# Altium footprint library Inductors.PcbLib: 25 footprints (part 2 of 2)
Each footprint in its own frame and in the unit in brackets; x right, y up, seen from the top. Pads: shape width x height; smd on the part's side, far side on the other; paste and mask are expansions set on the pad; w line width, h text height; cw(c..) or ccw(c..) is an arc to the next point about the centre after c.
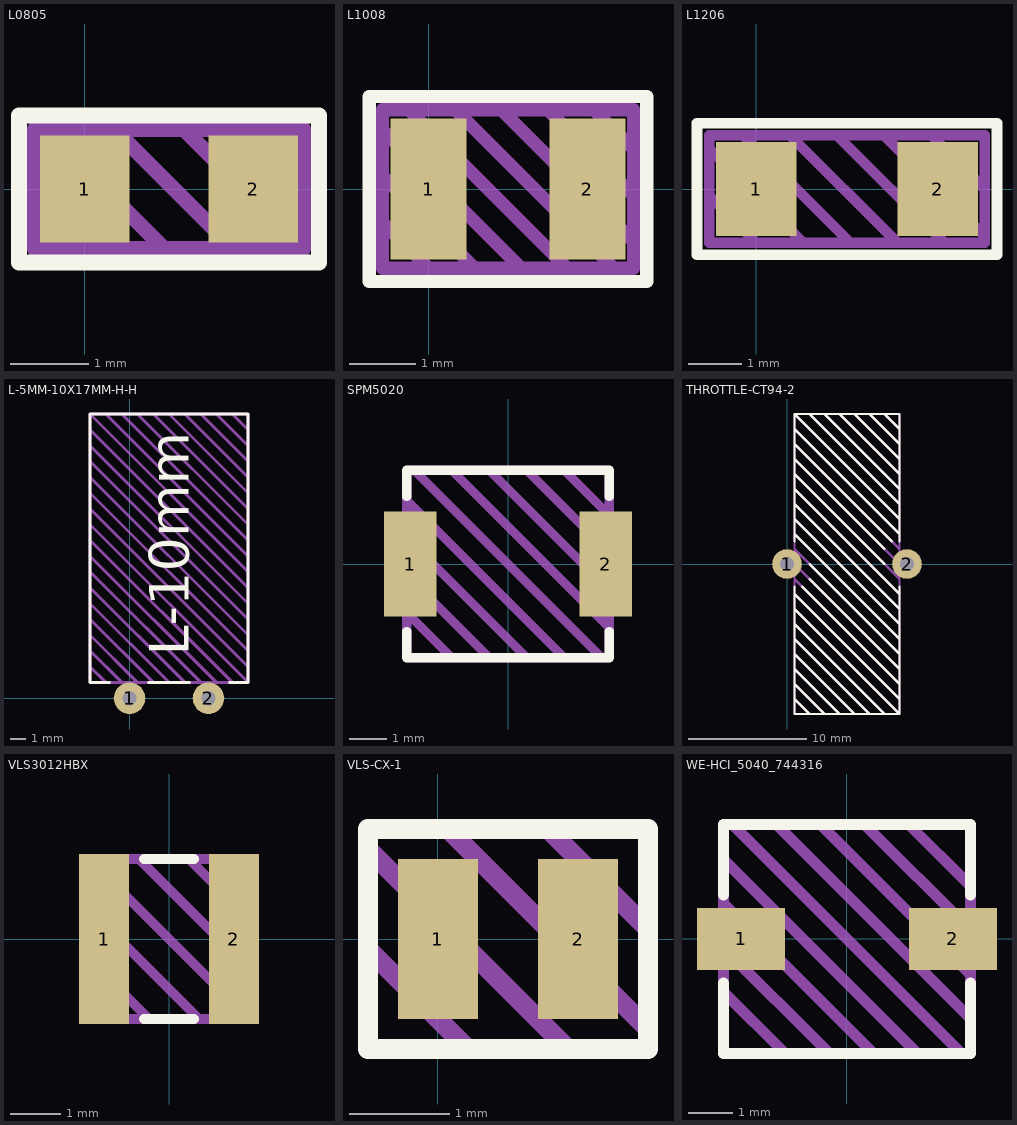
[diagram p1: the footprints below, top view; thin cyan lines are the x and y axes]

## L0805 [mil]
pads (2):
  rect 45x54 smd: 1(0,0) 2(85,0)
Top Overlay:
  lines w7.87: -33,-37 -33,37 118,37 118,-37 -33,-37
Top Draw:
  lines w7.87: -25,0 5,-30 ; -20,30 40,-30 ; 15,30 75,-30 ; 35,-30 42.5,-30 ; 50,30 110,-30 ; 85,30 110,5 ; 110,-30 110,30 -25,30 -25,-30 110,-30
Top Info:
  text "'.Comment'" at -82.14,-84.15 h29.53
3D body "Chip2PinSM127P600-8N.step": height 23.62, standoff 0, extent 3.63,-23.62 82.37,23.62

## L1008 [mm]
pads (2):
  rect 1.15x2.14 smd: 1(0,0) 2(2.4,0)
Top Overlay:
  lines w0.2: -0.9,-1.4 -0.9,1.4 3.3,1.4 3.3,-1.4 -0.9,-1.4
Top Draw:
  lines w0.2: -0.7,-0.5 0,-1.2 ; -0.7,0.2 0.7,-1.2 ; -0.7,0.9 1.4,-1.2 ; -0.3,1.2 2.1,-1.2 ; 0.4,1.2 2.8,-1.2 ; 1.1,1.2 3.1,-0.8 ; 1.8,1.2 3.1,-0.1 ; 2.5,1.2 3.1,0.6 ; -0.7,-1.2 -0.7,1.2 3.1,1.2 3.1,-1.2 -0.7,-1.2
Top Info:
  text "'.Comment'" at -1.986,-2.537 h0.75
3D body "INDC2520X09N.step": height 0.9, standoff 0, extent -0.05,-1 2.45,1

## L1206 [mil]
pads (2):
  rect 60x70 smd: 1(0,0) 2(135,0)
Top Overlay:
  lines w7.87: -44,-49 179,-49 179,49 -44,49 -44,-49
Top Draw:
  lines w7.87: -35,-5 0,-40 ; -35,30 35,-40 ; -10,40 70,-40 ; 25,40 105,-40 ; 60,40 140,-40 ; 95,40 170,-35 ; 130,40 170,0 ; -35,-40 170,-40 170,40 -35,40 -35,-40
Top Info:
  text "'.Comment'" at -58.52,-95.96 h29.53
3D body "Chip2PinSM127P600-8N.step": height 23.62, standoff 0, extent 5.01,-31.49 131,31.5

## L-5MM-10X17MM-H-H [mm]
pads (2):
  round 2 hole 0.9: 1(0,0) 2(5,0)
Top Overlay:
  lines w0.2: -1.27,1 -2.5,1 -2.5,18 7.5,18 7.5,1 6.35,1 ; 1.2,1 3.8,1
  text "L-10mm" at 3.75,2.7 h2.5
Top Draw:
  lines w0.2: -2.5,2 -1.5,1 ; -2.5,3 -0.5,1 ; -2.5,4 0.5,1 ; -2.5,5 1.5,1 ; -2.5,6 2.5,1 ; -2.5,7 3.5,1 ; -2.5,8 4.5,1 ; -2.5,9 5.5,1 ; -2.5,10 6.5,1 ; -2.5,11 7.5,1 ; -2.5,12 7.5,2 ; -2.5,13 7.5,3 ; -2.5,14 7.5,4 ; -2.5,15 7.5,5 ; -2.5,16 7.5,6 ; -2.5,17 7.5,7 ; -2.5,18 7.5,8 ; -1.5,18 7.5,9 ; -0.5,18 7.5,10 ; 0.5,18 7.5,11 ; 1.5,18 7.5,12 ; 2.5,18 7.5,13 ; 3.5,18 7.5,14 ; 4.5,18 7.5,15 ; 5.5,18 7.5,16 ; 6.5,18 7.5,17 ; 7.5,1 7.5,18 -2.5,18 -2.5,1 7.5,1
Top Info:
  text "'.Comment'" at -3.873,-3.175 h1.5
3D body "L-5.08MM-10X17MM-H-H.stp": height 10.01, standoff -2.6, extent -2.497,-0.25 7.497,18.03

## SPM5020 [mm]
pads (2):
  rect 1.4x2.8 smd: 1(-2.6,0) 2(2.6,0)
Top Overlay:
  lines w0.25: -2.7,-1.8 -2.7,-2.5 2.7,-2.5 2.7,-1.8 ; -2.7,1.8 -2.7,2.5 2.7,2.5 2.7,1.8
Top Draw:
  lines w0.25: -2.7,-1.3 -1.5,-2.5 ; -2.7,-0.3 -0.5,-2.5 ; -2.7,0.7 0.5,-2.5 ; -2.7,1.7 1.5,-2.5 ; -2.5,2.5 2.5,-2.5 ; -1.5,2.5 2.7,-1.7 ; -0.5,2.5 2.7,-0.7 ; 0.5,2.5 2.7,0.3 ; 1.5,2.5 2.7,1.3 ; -2.7,-2.5 -2.7,2.5 2.7,2.5 2.7,-2.5 -2.7,-2.5
Top Info:
  text "'.Comment'" at -4.249,-3.983 h1
3D body "SPM5020.step": height 2, standoff 0, extent -2.7,-2.55 2.7,2.55

## THROTTLE-CT94-2 [mm]
pads (2):
  round 2.5 hole 1.2: 1(0,0) 2(10.16,0)
Top Overlay:
  lines w0.2: 0.635,-11.43 1.905,-12.7 ; 0.635,-10.16 3.175,-12.7 ; 0.635,-8.89 4.445,-12.7 ; 0.635,-7.62 5.715,-12.7 ; 0.635,-6.35 6.985,-12.7 ; 0.635,-5.08 8.255,-12.7 ; 0.635,-3.81 9.525,-12.7 ; 0.635,-2.54 9.525,-11.43 ; 0.635,-1.905 0.635,-12.7 9.525,-12.7 ; 0.635,1.905 0.635,12.7 ; 0.635,2.54 9.525,-6.35 ; 0.635,3.81 9.525,-5.08 ; 0.635,5.08 9.525,-3.81 ; 0.635,6.35 9.525,-2.54 ; 0.635,7.62 8.255,0 ; 0.635,8.89 8.255,1.27 ; 0.635,10.16 8.89,1.905 ; 0.635,11.43 9.525,2.54 ; 1.27,-1.905 9.525,-10.16 ; 1.905,-1.27 9.525,-8.89 ; 1.905,0 9.525,-7.62 ; 1.905,12.7 9.525,5.08 ; 3.175,12.7 9.525,6.35 ; 4.445,12.7 9.525,7.62 ; 5.715,12.7 9.525,8.89 ; 6.985,12.7 9.525,10.16 ; 8.255,12.7 9.525,11.43 ; 9.525,-1.905 9.525,-12.7 ; 9.525,1.905 9.525,12.7 0.635,12.7 ; 9.525,3.81 0.635,12.7
Top Draw:
  lines w0.2: 0.635,-11.43 1.905,-12.7 ; 0.635,-10.16 3.175,-12.7 ; 0.635,-8.89 4.445,-12.7 ; 0.635,-7.62 5.715,-12.7 ; 0.635,-6.35 6.985,-12.7 ; 0.635,-5.08 8.255,-12.7 ; 0.635,-3.81 9.525,-12.7 ; 0.635,-2.54 9.525,-11.43 ; 0.635,-1.27 9.525,-10.16 ; 0.635,0 9.525,-8.89 ; 0.635,1.27 9.525,-7.62 ; 0.635,2.54 9.525,-6.35 ; 0.635,3.81 9.525,-5.08 ; 0.635,5.08 9.525,-3.81 ; 0.635,6.35 9.525,-2.54 ; 0.635,7.62 9.525,-1.27 ; 0.635,8.89 9.525,0 ; 0.635,10.16 9.525,1.27 ; 0.635,11.43 9.525,2.54 ; 1.905,12.7 9.525,5.08 ; 3.175,12.7 9.525,6.35 ; 4.445,12.7 9.525,7.62 ; 5.715,12.7 9.525,8.89 ; 6.985,12.7 9.525,10.16 ; 8.255,12.7 9.525,11.43 ; 9.525,3.81 0.635,12.7 ; 0.635,12.7 0.635,-12.7 9.525,-12.7 ; 0.635,12.7 9.525,12.7 9.525,-12.7
Top Info:
  text "'.Comment'" at -1.373,-14.875 h1.5

## VLS3012HBX [mm]
pads (2):
  rect 1x3.4 smd: 1(-1.3,0) 2(1.3,0)
Top Overlay:
  lines w0.2: -0.5,-1.6 0.5,-1.6 ; -0.5,1.6 0.5,1.6
Top Draw:
  lines w0.2: -1.5,-0.5 -0.4,-1.6 ; -1.5,0.5 0.6,-1.6 ; -1.5,1.5 1.5,-1.5 ; -0.6,1.6 1.5,-0.5 ; 0.4,1.6 1.5,0.5 ; -1.5,-1.6 1.5,-1.6 1.5,1.6 -1.5,1.6 -1.5,-1.6
Top Info:
  text "'.Comment'" at -3.186,-2.837 h0.75
3D body "VLS3012HBX.step": height 1.2, standoff 0, extent -1.549,-1.549 1.549,1.549

## VLS-CX-1 [mm]
pads (2):
  rect 0.8x1.6 smd: 1(0,0) 2(1.4,0)
Top Overlay:
  lines w0.2: -0.7,-1.1 -0.7,1.1 2.1,1.1 2.1,-1.1 -0.7,-1.1
Top Draw:
  lines w0.2: -0.7,-0.1 0.3,-1.1 ; -0.7,0.9 1.3,-1.1 ; 0.1,1.1 2.1,-0.9 ; 1.1,1.1 2.1,0.1 ; -0.7,-1.1 2.1,-1.1 2.1,1.1 -0.7,1.1 -0.7,-1.1
Top Info:
  text "'.Comment'" at -1.424,-1.892 h0.5

## WE-HCI_5040_744316 [mm]
pads (2):
  rect 2x1.4 smd: 1(-2.4,0) 2(2.4,0)
Top Overlay:
  lines w0.25: -2.8,-1 -2.8,-2.6 2.8,-2.6 2.8,-1 ; -2.8,1 -2.8,2.6 2.8,2.6 2.8,1
Top Draw:
  lines w0.25: -2.8,-1.2 -1.4,-2.6 ; -2.8,-0.2 -0.4,-2.6 ; -2.8,0.8 0.6,-2.6 ; -2.8,1.8 1.6,-2.6 ; -2.6,2.6 2.6,-2.6 ; -1.6,2.6 2.8,-1.8 ; -0.6,2.6 2.8,-0.8 ; 0.4,2.6 2.8,0.2 ; 1.4,2.6 2.8,1.2 ; -2.8,-2.6 -2.8,2.6 2.8,2.6 2.8,-2.6 -2.8,-2.6
Top Info:
  text "'.Comment'" at -4.249,-4.083 h1
3D body "WE-HCI_5040_744316.stp": height 3.95, standoff 0, extent -2.8,-2.65 2.8,2.65